# EAGLE library part 62000621821 (library Wurth_Elektronik2)
WR-PHD 2.00mm Dual Socket Header, 6 Pins=>Code : Con_BTB_SHD_2.00_2_62000621821 <http://katalog.we-online.de/media/thumbs2/eican/thb_Con_BTB_SHD_2.00_2_6200xx21821_pf2.jpg> Details see: http://katalog.we-online.de/en/em/620_0xx_218_21 Created 2014-06-03, Karrer Zheng 2014 (C) Würth Elektronik
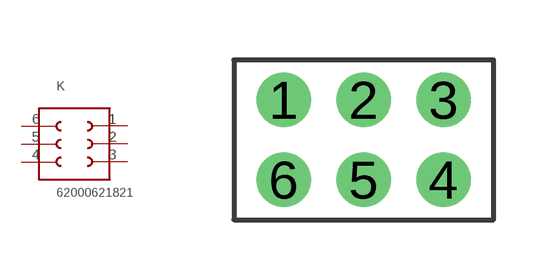
[diagram p255: symbol with the pads of 62000621821; footprint 62000621821]

Designator prefix K

## 62000621821  [62000621821]
1  1  pas
2  2  pas
3  3  pas
4  4  pas
5  5  pas
6  6  pas

## Footprint 62000621821 (pad centres in mm)
WR-PHD 2.00mm Dual Socket Header, 6 Pins
drill 0.85: 1 -2,1; 2 0,1; 3 2,1; 4 2,-1; 5 0,-1; 6 -2,-1